# Altium integrated library TI_Logic_Flip-Flop,Latch,Register.IntLib: 2598 symbols (part 23 of 122)
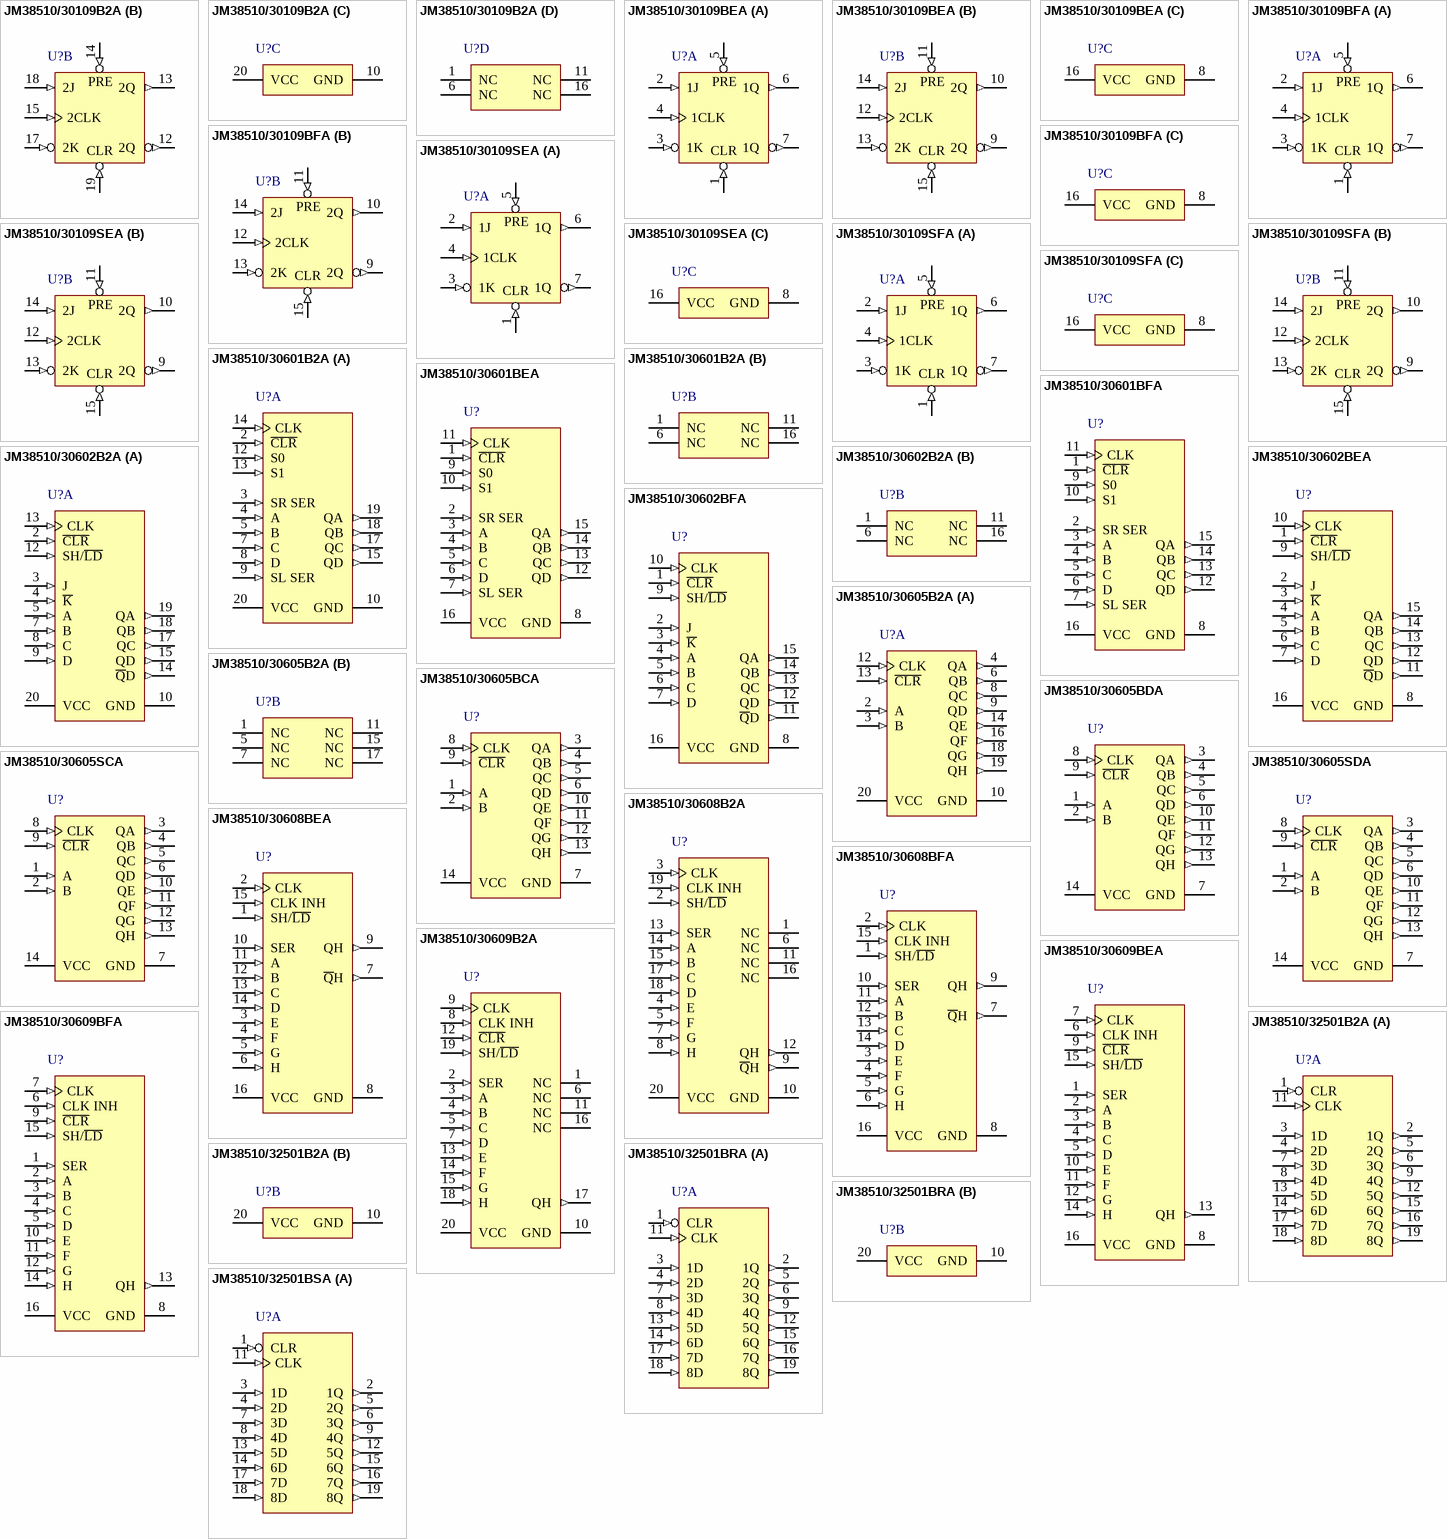
[diagram p161: symbols JM38510/30109B2A to JM38510/32501BSA]

## JM38510/32501B2A
designator U?
Octal D-type Flip-Flop With Clear, FK0020A, TUBE; Generic Part Number: SN54LS273; Manufacturer: Texas Instruments; PartNumber: JM38510/32501B2A; VCC(Min)(V): 4.75; VCC(Max)(V): 5.25; Output Type: TTL; Output: 2S; ICC @ Nom Voltage(Max)(mA): 27; Bits(#): 8; F @ Nom Voltage(Max)(Mhz): 35; Rating: Military; Technology Family: LS; Schmitt Trigger: No; Output Drive (IOL/IOH)(Max)(mA): 8/-0.4; Output Logic: Non-inverted; DatasheetVersion: SDLS090; PackageReference: FK0020A; Input Type: TTL; Operating Temperature Range(C): -55 to 125; 3-State Output: No; tpd @ Nom Voltage(Max)(ns): 27; Code_JEDEC: MS-004; ComponentLink1Description: Manufacturer URL; ComponentLink1URL: http://www.ti.com/; ComponentLink2Description: Datasheet; ComponentLink2URL: http://www.ti.com/lit/ds/symlink/sn54ls273.pdf; ComponentLink3Description: Package Specification; ComponentLink3URL: http://www.ti.com/lit/ml/mlcc006d/mlcc006d.pdf
footprint FK0020A_N (LCC, 20-Leads, Body 8.9x8.9mm, Pitch 1.27mm, IPC Medium Density)
footprint FK0020A_M (LCC, 20-Leads, Body 8.9x8.9mm, Pitch 1.27mm, IPC Low Density)
footprint FK0020A_L (LCC, 20-Leads, Body 8.9x8.9mm, Pitch 1.27mm, IPC High Density)
part A pins: 1 CLR (in) "Clear Pin", 2 1Q (out) "1Q Output", 3 1D (in) "1D Input", 4 2D (in) "2D Input", 5 2Q (out) "2Q Output", 6 3Q (out) "3Q Output", 7 3D (in) "3D Input", 8 4D (in) "4D Input", 9 4Q (out) "4Q Output", 11 CLK (in) "Clock Pin", 12 5Q (out) "5Q Output", 13 5D (in) "5D Input", 14 6D (in) "6D Input", 15 6Q (out) "6Q Output", 16 7Q (out) "7Q Output", 17 7D (in) "7D Input", 18 8D (in) "8D Input", 19 8Q (out) "8Q Output"
part B pins: 10 GND (power) "Ground Pin", 20 VCC (power) "Power Pin"

## JM38510/32501BRA
designator U?
Octal D-type Flip-Flop With Clear, J0020A, TUBE; Generic Part Number: SN54LS273; Manufacturer: Texas Instruments; PartNumber: JM38510/32501BRA; VCC(Min)(V): 4.75; VCC(Max)(V): 5.25; Output Type: TTL; Output: 2S; ICC @ Nom Voltage(Max)(mA): 27; Bits(#): 8; F @ Nom Voltage(Max)(Mhz): 35; Rating: Military; Technology Family: LS; Schmitt Trigger: No; Output Drive (IOL/IOH)(Max)(mA): 8/-0.4; Output Logic: Non-inverted; DatasheetVersion: SDLS090; PackageReference: J0020A; Input Type: TTL; Operating Temperature Range(C): -55 to 125; 3-State Output: No; tpd @ Nom Voltage(Max)(ns): 27; ComponentLink1Description: Manufacturer URL; ComponentLink1URL: http://www.ti.com/; ComponentLink2Description: Datasheet; ComponentLink2URL: http://www.ti.com/lit/ds/symlink/sn54ls273.pdf; ComponentLink3Description: Package Specification; ComponentLink3URL: http://www.ti.com/lit/ml/mcer002d/mcer002d.pdf
footprint J0020A (DIP, 20-Leads, Body 26.9x7.2mm, Pitch 2.54mm)
part A pins: 1 CLR (in) "Clear Pin", 2 1Q (out) "1Q Output", 3 1D (in) "1D Input", 4 2D (in) "2D Input", 5 2Q (out) "2Q Output", 6 3Q (out) "3Q Output", 7 3D (in) "3D Input", 8 4D (in) "4D Input", 9 4Q (out) "4Q Output", 11 CLK (in) "Clock Pin", 12 5Q (out) "5Q Output", 13 5D (in) "5D Input", 14 6D (in) "6D Input", 15 6Q (out) "6Q Output", 16 7Q (out) "7Q Output", 17 7D (in) "7D Input", 18 8D (in) "8D Input", 19 8Q (out) "8Q Output"
part B pins: 10 GND (power) "Ground Pin", 20 VCC (power) "Power Pin"

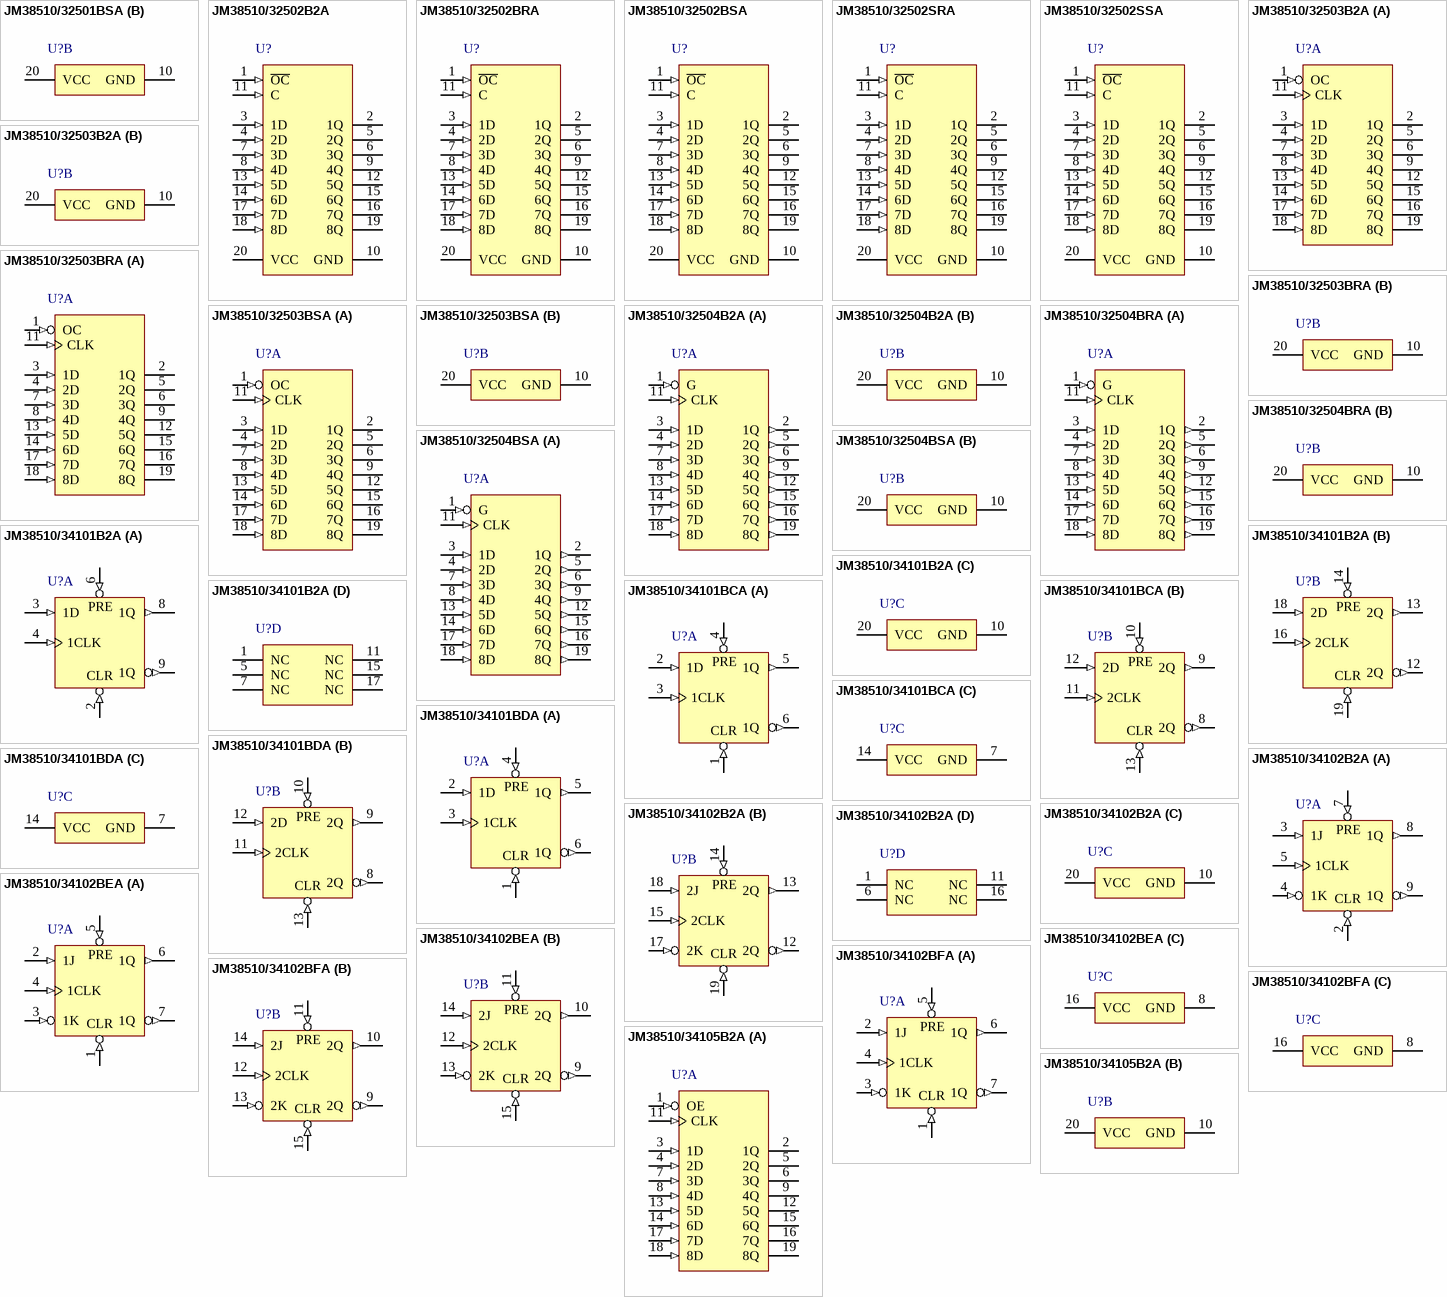
[diagram p32: symbols JM38510/32501BSA to JM38510/34105B2A]

## JM38510/32501BSA
designator U?
Octal D-type Flip-Flop With Clear, W0020A, TUBE; Generic Part Number: SN54LS273; Manufacturer: Texas Instruments; PartNumber: JM38510/32501BSA; VCC(Min)(V): 4.75; VCC(Max)(V): 5.25; Output Type: TTL; Output: 2S; ICC @ Nom Voltage(Max)(mA): 27; Bits(#): 8; F @ Nom Voltage(Max)(Mhz): 35; Rating: Military; Technology Family: LS; Schmitt Trigger: No; Output Drive (IOL/IOH)(Max)(mA): 8/-0.4; Output Logic: Non-inverted; DatasheetVersion: SDLS090; PackageReference: W0020A; Input Type: TTL; Operating Temperature Range(C): -55 to 125; 3-State Output: No; tpd @ Nom Voltage(Max)(ns): 27; ComponentLink1Description: Manufacturer URL; ComponentLink1URL: http://www.ti.com/; ComponentLink2Description: Datasheet; ComponentLink2URL: http://www.ti.com/lit/ds/symlink/sn54ls273.pdf; ComponentLink3Description: Package Specification; ComponentLink3URL: http://www.ti.com/lit/ml/mcfp006d/mcfp006d.pdf
footprint W0020A_N (CFP, 20-Leads, Body 13.72x7.62mm, Pitch 1.27mm, IPC Medium Density)
footprint W0020A_M (CFP, 20-Leads, Body 13.72x7.62mm, Pitch 1.27mm, IPC Low Density)
footprint W0020A_L (CFP, 20-Leads, Body 13.72x7.62mm, Pitch 1.27mm, IPC High Density)
part A pins: 1 CLR (in) "Clear Pin", 2 1Q (out) "1Q Output", 3 1D (in) "1D Input", 4 2D (in) "2D Input", 5 2Q (out) "2Q Output", 6 3Q (out) "3Q Output", 7 3D (in) "3D Input", 8 4D (in) "4D Input", 9 4Q (out) "4Q Output", 11 CLK (in) "Clock Pin", 12 5Q (out) "5Q Output", 13 5D (in) "5D Input", 14 6D (in) "6D Input", 15 6Q (out) "6Q Output", 16 7Q (out) "7Q Output", 17 7D (in) "7D Input", 18 8D (in) "8D Input", 19 8Q (out) "8Q Output"
part B pins: 10 GND (power) "Ground Pin", 20 VCC (power) "Power Pin"

## JM38510/32502B2A
designator U?
Octal D-Type Transparent Latches with 3-state Outputs, FK0020A, TUBE; Generic Part Number: SN54LS373; Manufacturer: Texas Instruments; PartNumber: JM38510/32502B2A; VCC(Min)(V): 4.75; VCC(Max)(V): 5.25; Output Type: TTL; Logic: True; ICC @ Nom Voltage(Max)(mA): 40; Bits(#): 8; F @ Nom Voltage(Max)(Mhz): 35; Rating: Military; Technology Family: LS; Schmitt Trigger: No; Output Drive (IOL/IOH)(Max)(mA): 24/-2.6; Output Logic: Non-inverted; 3-State Output: Yes; tpd @ Nom Voltage(Max)(ns): 18; DatasheetVersion: SDLS165B; PackageReference: FK0020A; Input Type: TTL; Operating Temperature Range(C): -55 to 125; Code_JEDEC: MS-004; ComponentLink1Description: Manufacturer URL; ComponentLink1URL: http://www.ti.com/; ComponentLink2Description: Datasheet; ComponentLink2URL: http://www.ti.com/lit/ds/symlink/sn54ls373.pdf; ComponentLink3Description: Package Specification; ComponentLink3URL: http://www.ti.com/lit/ml/mlcc006d/mlcc006d.pdf
footprint FK0020A_N (LCC, 20-Leads, Body 8.9x8.9mm, Pitch 1.27mm, IPC Medium Density)
footprint FK0020A_M (LCC, 20-Leads, Body 8.9x8.9mm, Pitch 1.27mm, IPC Low Density)
footprint FK0020A_L (LCC, 20-Leads, Body 8.9x8.9mm, Pitch 1.27mm, IPC High Density)
pins: 1 ~{OC} (in), 2 1Q (hiz), 3 1D (in), 4 2D (in), 5 2Q (hiz), 6 3Q (hiz), 7 3D (in), 8 4D (in), 9 4Q (hiz), 10 GND (power), 11 C (in), 12 5Q (hiz), 13 5D (in), 14 6D (in), 15 6Q (hiz), 16 7Q (hiz), 17 7D (in), 18 8D (in), 19 8Q (hiz), 20 VCC (power)

## JM38510/32502BRA
designator U?
Octal D-Type Transparent Latches with 3-state Outputs, J0020A, TUBE; Generic Part Number: SN54LS373; Manufacturer: Texas Instruments; PartNumber: JM38510/32502BRA; VCC(Min)(V): 4.75; VCC(Max)(V): 5.25; Output Type: TTL; Logic: True; ICC @ Nom Voltage(Max)(mA): 40; Bits(#): 8; F @ Nom Voltage(Max)(Mhz): 35; Rating: Military; Technology Family: LS; Schmitt Trigger: No; Output Drive (IOL/IOH)(Max)(mA): 24/-2.6; Output Logic: Non-inverted; 3-State Output: Yes; tpd @ Nom Voltage(Max)(ns): 18; DatasheetVersion: SDLS165B; PackageReference: J0020A; Input Type: TTL; Operating Temperature Range(C): -55 to 125; ComponentLink1Description: Manufacturer URL; ComponentLink1URL: http://www.ti.com/; ComponentLink2Description: Datasheet; ComponentLink2URL: http://www.ti.com/lit/ds/symlink/sn54ls373.pdf; ComponentLink3Description: Package Specification; ComponentLink3URL: http://www.ti.com/lit/ml/mcer002d/mcer002d.pdf
footprint J0020A (DIP, 20-Leads, Body 26.9x7.2mm, Pitch 2.54mm)
pins: 1 ~{OC} (in), 2 1Q (hiz), 3 1D (in), 4 2D (in), 5 2Q (hiz), 6 3Q (hiz), 7 3D (in), 8 4D (in), 9 4Q (hiz), 10 GND (power), 11 C (in), 12 5Q (hiz), 13 5D (in), 14 6D (in), 15 6Q (hiz), 16 7Q (hiz), 17 7D (in), 18 8D (in), 19 8Q (hiz), 20 VCC (power)

## JM38510/32502BSA
designator U?
Octal D-Type Transparent Latches with 3-state Outputs, W0020A, TUBE; Generic Part Number: SN54LS373; Manufacturer: Texas Instruments; PartNumber: JM38510/32502BSA; VCC(Min)(V): 4.75; VCC(Max)(V): 5.25; Output Type: TTL; Logic: True; ICC @ Nom Voltage(Max)(mA): 40; Bits(#): 8; F @ Nom Voltage(Max)(Mhz): 35; Rating: Military; Technology Family: LS; Schmitt Trigger: No; Output Drive (IOL/IOH)(Max)(mA): 24/-2.6; Output Logic: Non-inverted; 3-State Output: Yes; tpd @ Nom Voltage(Max)(ns): 18; DatasheetVersion: SDLS165B; PackageReference: W0020A; Input Type: TTL; Operating Temperature Range(C): -55 to 125; ComponentLink1Description: Manufacturer URL; ComponentLink1URL: http://www.ti.com/; ComponentLink2Description: Datasheet; ComponentLink2URL: http://www.ti.com/lit/ds/symlink/sn54ls373.pdf; ComponentLink3Description: Package Specification; ComponentLink3URL: http://www.ti.com/lit/ml/mcfp006d/mcfp006d.pdf
footprint W0020A_N (CFP, 20-Leads, Body 13.72x7.62mm, Pitch 1.27mm, IPC Medium Density)
footprint W0020A_M (CFP, 20-Leads, Body 13.72x7.62mm, Pitch 1.27mm, IPC Low Density)
footprint W0020A_L (CFP, 20-Leads, Body 13.72x7.62mm, Pitch 1.27mm, IPC High Density)
pins: 1 ~{OC} (in), 2 1Q (hiz), 3 1D (in), 4 2D (in), 5 2Q (hiz), 6 3Q (hiz), 7 3D (in), 8 4D (in), 9 4Q (hiz), 10 GND (power), 11 C (in), 12 5Q (hiz), 13 5D (in), 14 6D (in), 15 6Q (hiz), 16 7Q (hiz), 17 7D (in), 18 8D (in), 19 8Q (hiz), 20 VCC (power)

## JM38510/32502SRA
designator U?
Octal D-Type Transparent Latches with 3-state Outputs, J0020A, TUBE; Generic Part Number: SN54LS373-SP; Manufacturer: Texas Instruments; PartNumber: JM38510/32502SRA; VCC(Min)(V): 4.75; VCC(Max)(V): 5.25; Output Type: TTL; Logic: True; ICC @ Nom Voltage(Max)(mA): 40; Bits(#): 8; F @ Nom Voltage(Max)(Mhz): 35; Rating: Space; Technology Family: LS; Schmitt Trigger: No; Output Drive (IOL/IOH)(Max)(mA): 24/-2.6; Output Logic: Non-inverted; 3-State Output: Yes; tpd @ Nom Voltage(Max)(ns): 18; DatasheetVersion: SDLS165B; PackageReference: J0020A; Input Type: TTL; Operating Temperature Range(C): -55 to 125; ComponentLink1Description: Manufacturer URL; ComponentLink1URL: http://www.ti.com/; ComponentLink2Description: Datasheet; ComponentLink2URL: http://www.ti.com/lit/ds/symlink/sn54ls373-sp.pdf; ComponentLink3Description: Package Specification; ComponentLink3URL: http://www.ti.com/lit/ml/mcer002d/mcer002d.pdf
footprint J0020A (DIP, 20-Leads, Body 26.9x7.2mm, Pitch 2.54mm)
pins: 1 ~{OC} (in), 2 1Q (hiz), 3 1D (in), 4 2D (in), 5 2Q (hiz), 6 3Q (hiz), 7 3D (in), 8 4D (in), 9 4Q (hiz), 10 GND (power), 11 C (in), 12 5Q (hiz), 13 5D (in), 14 6D (in), 15 6Q (hiz), 16 7Q (hiz), 17 7D (in), 18 8D (in), 19 8Q (hiz), 20 VCC (power)

## JM38510/32502SSA
designator U?
Octal D-Type Transparent Latches with 3-state Outputs, W0020A, TUBE; Generic Part Number: SN54LS373-SP; Manufacturer: Texas Instruments; PartNumber: JM38510/32502SSA; VCC(Min)(V): 4.75; VCC(Max)(V): 5.25; Output Type: TTL; Logic: True; ICC @ Nom Voltage(Max)(mA): 40; Bits(#): 8; F @ Nom Voltage(Max)(Mhz): 35; Rating: Space; Technology Family: LS; Schmitt Trigger: No; Output Drive (IOL/IOH)(Max)(mA): 24/-2.6; Output Logic: Non-inverted; 3-State Output: Yes; tpd @ Nom Voltage(Max)(ns): 18; DatasheetVersion: SDLS165B; PackageReference: W0020A; Input Type: TTL; Operating Temperature Range(C): -55 to 125; ComponentLink1Description: Manufacturer URL; ComponentLink1URL: http://www.ti.com/; ComponentLink2Description: Datasheet; ComponentLink2URL: http://www.ti.com/lit/ds/symlink/sn54ls373-sp.pdf; ComponentLink3Description: Package Specification; ComponentLink3URL: http://www.ti.com/lit/ml/mcfp006d/mcfp006d.pdf
footprint W0020A_N (CFP, 20-Leads, Body 13.72x7.62mm, Pitch 1.27mm, IPC Medium Density)
footprint W0020A_M (CFP, 20-Leads, Body 13.72x7.62mm, Pitch 1.27mm, IPC Low Density)
footprint W0020A_L (CFP, 20-Leads, Body 13.72x7.62mm, Pitch 1.27mm, IPC High Density)
pins: 1 ~{OC} (in), 2 1Q (hiz), 3 1D (in), 4 2D (in), 5 2Q (hiz), 6 3Q (hiz), 7 3D (in), 8 4D (in), 9 4Q (hiz), 10 GND (power), 11 C (in), 12 5Q (hiz), 13 5D (in), 14 6D (in), 15 6Q (hiz), 16 7Q (hiz), 17 7D (in), 18 8D (in), 19 8Q (hiz), 20 VCC (power)

## JM38510/32503B2A
designator U?
Octal D-Type Edge Triggered Flip-Flops with 3-State Outputs, FK0020A, TUBE; Generic Part Number: SN54LS374; Manufacturer: Texas Instruments; PartNumber: JM38510/32503B2A; VCC(Min)(V): 4.75; VCC(Max)(V): 5.25; Output Type: TTL; ICC @ Nom Voltage(Max)(mA): 40; Bits(#): 8; F @ Nom Voltage(Max)(Mhz): 35; Rating: Military; Technology Family: LS; Schmitt Trigger: No; Output Drive (IOL/IOH)(Max)(mA): 24/-2.6; Output Logic: Non-inverted; 3-State Output: Yes; tpd @ Nom Voltage(Max)(ns): 28; DatasheetVersion: SDLS165B; PackageReference: FK0020A; Input Type: TTL; Operating Temperature Range(C): -55 to 125; Code_JEDEC: MS-004; ComponentLink1Description: Manufacturer URL; ComponentLink1URL: http://www.ti.com/; ComponentLink2Description: Datasheet; ComponentLink2URL: http://www.ti.com/lit/ds/symlink/sn54ls374.pdf; ComponentLink3Description: Package Specification; ComponentLink3URL: http://www.ti.com/lit/ml/mlcc006d/mlcc006d.pdf
footprint FK0020A_N (LCC, 20-Leads, Body 8.9x8.9mm, Pitch 1.27mm, IPC Medium Density)
footprint FK0020A_M (LCC, 20-Leads, Body 8.9x8.9mm, Pitch 1.27mm, IPC Low Density)
footprint FK0020A_L (LCC, 20-Leads, Body 8.9x8.9mm, Pitch 1.27mm, IPC High Density)
part A pins: 1 OC (in), 2 1Q (hiz), 3 1D (in), 4 2D (in), 5 2Q (hiz), 6 3Q (hiz), 7 3D (in), 8 4D (in), 9 4Q (hiz), 11 CLK (in), 12 5Q (hiz), 13 5D (in), 14 6D (in), 15 6Q (hiz), 16 7Q (hiz), 17 7D (in), 18 8D (in), 19 8Q (hiz)
part B pins: 10 GND (power), 20 VCC (power)

## JM38510/32503BRA
designator U?
Octal D-Type Edge Triggered Flip-Flops with 3-State Outputs, J0020A, TUBE; Generic Part Number: SN54LS374; Manufacturer: Texas Instruments; PartNumber: JM38510/32503BRA; VCC(Min)(V): 4.75; VCC(Max)(V): 5.25; Output Type: TTL; ICC @ Nom Voltage(Max)(mA): 40; Bits(#): 8; F @ Nom Voltage(Max)(Mhz): 35; Rating: Military; Technology Family: LS; Schmitt Trigger: No; Output Drive (IOL/IOH)(Max)(mA): 24/-2.6; Output Logic: Non-inverted; 3-State Output: Yes; tpd @ Nom Voltage(Max)(ns): 28; DatasheetVersion: SDLS165B; PackageReference: J0020A; Input Type: TTL; Operating Temperature Range(C): -55 to 125; ComponentLink1Description: Manufacturer URL; ComponentLink1URL: http://www.ti.com/; ComponentLink2Description: Datasheet; ComponentLink2URL: http://www.ti.com/lit/ds/symlink/sn54ls374.pdf; ComponentLink3Description: Package Specification; ComponentLink3URL: http://www.ti.com/lit/ml/mcer002d/mcer002d.pdf
footprint J0020A (DIP, 20-Leads, Body 26.9x7.2mm, Pitch 2.54mm)
part A pins: 1 OC (in), 2 1Q (hiz), 3 1D (in), 4 2D (in), 5 2Q (hiz), 6 3Q (hiz), 7 3D (in), 8 4D (in), 9 4Q (hiz), 11 CLK (in), 12 5Q (hiz), 13 5D (in), 14 6D (in), 15 6Q (hiz), 16 7Q (hiz), 17 7D (in), 18 8D (in), 19 8Q (hiz)
part B pins: 10 GND (power), 20 VCC (power)

## JM38510/32503BSA
designator U?
Octal D-Type Edge Triggered Flip-Flops with 3-State Outputs, W0020A, TUBE; Generic Part Number: SN54LS374; Manufacturer: Texas Instruments; PartNumber: JM38510/32503BSA; VCC(Min)(V): 4.75; VCC(Max)(V): 5.25; Output Type: TTL; ICC @ Nom Voltage(Max)(mA): 40; Bits(#): 8; F @ Nom Voltage(Max)(Mhz): 35; Rating: Military; Technology Family: LS; Schmitt Trigger: No; Output Drive (IOL/IOH)(Max)(mA): 24/-2.6; Output Logic: Non-inverted; 3-State Output: Yes; tpd @ Nom Voltage(Max)(ns): 28; DatasheetVersion: SDLS165B; PackageReference: W0020A; Input Type: TTL; Operating Temperature Range(C): -55 to 125; ComponentLink1Description: Manufacturer URL; ComponentLink1URL: http://www.ti.com/; ComponentLink2Description: Datasheet; ComponentLink2URL: http://www.ti.com/lit/ds/symlink/sn54ls374.pdf; ComponentLink3Description: Package Specification; ComponentLink3URL: http://www.ti.com/lit/ml/mcfp006d/mcfp006d.pdf
footprint W0020A_N (CFP, 20-Leads, Body 13.72x7.62mm, Pitch 1.27mm, IPC Medium Density)
footprint W0020A_M (CFP, 20-Leads, Body 13.72x7.62mm, Pitch 1.27mm, IPC Low Density)
footprint W0020A_L (CFP, 20-Leads, Body 13.72x7.62mm, Pitch 1.27mm, IPC High Density)
part A pins: 1 OC (in), 2 1Q (hiz), 3 1D (in), 4 2D (in), 5 2Q (hiz), 6 3Q (hiz), 7 3D (in), 8 4D (in), 9 4Q (hiz), 11 CLK (in), 12 5Q (hiz), 13 5D (in), 14 6D (in), 15 6Q (hiz), 16 7Q (hiz), 17 7D (in), 18 8D (in), 19 8Q (hiz)
part B pins: 10 GND (power), 20 VCC (power)

## JM38510/32504B2A
designator U?
Octal D-type Flip-Flops With Enable, FK0020A, TUBE; Generic Part Number: SN54LS377; Manufacturer: Texas Instruments; PartNumber: JM38510/32504B2A; VCC(Min)(V): 4.75; VCC(Max)(V): 5.25; Output Type: TTL; Output: 2S; ICC @ Nom Voltage(Max)(mA): 28; Bits(#): 8; F @ Nom Voltage(Max)(Mhz): 35; Rating: Military; Technology Family: LS; Schmitt Trigger: No; Output Drive (IOL/IOH)(Max)(mA): 8/-0.4; Output Logic: Inverted,Non-inverted; tpd @ Nom Voltage(Max)(ns): 27; DatasheetVersion: SDLS167; PackageReference: FK0020A; Input Type: TTL; Operating Temperature Range(C): -55 to 125; 3-State Output: No; Code_JEDEC: MS-004; ComponentLink1Description: Manufacturer URL; ComponentLink1URL: http://www.ti.com/; ComponentLink2Description: Datasheet; ComponentLink2URL: http://www.ti.com/lit/ds/symlink/sn54ls377.pdf; ComponentLink3Description: Package Specification; ComponentLink3URL: http://www.ti.com/lit/ml/mlcc006d/mlcc006d.pdf
footprint FK0020A_N (LCC, 20-Leads, Body 8.9x8.9mm, Pitch 1.27mm, IPC Medium Density)
footprint FK0020A_M (LCC, 20-Leads, Body 8.9x8.9mm, Pitch 1.27mm, IPC Low Density)
footprint FK0020A_L (LCC, 20-Leads, Body 8.9x8.9mm, Pitch 1.27mm, IPC High Density)
part A pins: 1 G (in), 2 1Q (out), 3 1D (in), 4 2D (in), 5 2Q (out), 6 3Q (out), 7 3D (in), 8 4D (in), 9 4Q (out), 11 CLK (in), 12 5Q (out), 13 5D (in), 14 6D (in), 15 6Q (out), 16 7Q (out), 17 7D (in), 18 8D (in), 19 8Q (out)
part B pins: 10 GND (power), 20 VCC (power)

## JM38510/32504BRA
designator U?
Octal D-type Flip-Flops With Enable, J0020A, TUBE; Generic Part Number: SN54LS377; Manufacturer: Texas Instruments; PartNumber: JM38510/32504BRA; VCC(Min)(V): 4.75; VCC(Max)(V): 5.25; Output Type: TTL; Output: 2S; ICC @ Nom Voltage(Max)(mA): 28; Bits(#): 8; F @ Nom Voltage(Max)(Mhz): 35; Rating: Military; Technology Family: LS; Schmitt Trigger: No; Output Drive (IOL/IOH)(Max)(mA): 8/-0.4; Output Logic: Inverted,Non-inverted; tpd @ Nom Voltage(Max)(ns): 27; DatasheetVersion: SDLS167; PackageReference: J0020A; Input Type: TTL; Operating Temperature Range(C): -55 to 125; 3-State Output: No; ComponentLink1Description: Manufacturer URL; ComponentLink1URL: http://www.ti.com/; ComponentLink2Description: Datasheet; ComponentLink2URL: http://www.ti.com/lit/ds/symlink/sn54ls377.pdf; ComponentLink3Description: Package Specification; ComponentLink3URL: http://www.ti.com/lit/ml/mcer002d/mcer002d.pdf
footprint J0020A (DIP, 20-Leads, Body 26.9x7.2mm, Pitch 2.54mm)
part A pins: 1 G (in), 2 1Q (out), 3 1D (in), 4 2D (in), 5 2Q (out), 6 3Q (out), 7 3D (in), 8 4D (in), 9 4Q (out), 11 CLK (in), 12 5Q (out), 13 5D (in), 14 6D (in), 15 6Q (out), 16 7Q (out), 17 7D (in), 18 8D (in), 19 8Q (out)
part B pins: 10 GND (power), 20 VCC (power)

## JM38510/32504BSA
designator U?
Octal D-type Flip-Flops With Enable, W0020A, TUBE; Generic Part Number: SN54LS377; Manufacturer: Texas Instruments; PartNumber: JM38510/32504BSA; VCC(Min)(V): 4.75; VCC(Max)(V): 5.25; Output Type: TTL; Output: 2S; ICC @ Nom Voltage(Max)(mA): 28; Bits(#): 8; F @ Nom Voltage(Max)(Mhz): 35; Rating: Military; Technology Family: LS; Schmitt Trigger: No; Output Drive (IOL/IOH)(Max)(mA): 8/-0.4; Output Logic: Inverted,Non-inverted; tpd @ Nom Voltage(Max)(ns): 27; DatasheetVersion: SDLS167; PackageReference: W0020A; Input Type: TTL; Operating Temperature Range(C): -55 to 125; 3-State Output: No; ComponentLink1Description: Manufacturer URL; ComponentLink1URL: http://www.ti.com/; ComponentLink2Description: Datasheet; ComponentLink2URL: http://www.ti.com/lit/ds/symlink/sn54ls377.pdf; ComponentLink3Description: Package Specification; ComponentLink3URL: http://www.ti.com/lit/ml/mcfp006d/mcfp006d.pdf
footprint W0020A_N (CFP, 20-Leads, Body 13.72x7.62mm, Pitch 1.27mm, IPC Medium Density)
footprint W0020A_M (CFP, 20-Leads, Body 13.72x7.62mm, Pitch 1.27mm, IPC Low Density)
footprint W0020A_L (CFP, 20-Leads, Body 13.72x7.62mm, Pitch 1.27mm, IPC High Density)
part A pins: 1 G (in), 2 1Q (out), 3 1D (in), 4 2D (in), 5 2Q (out), 6 3Q (out), 7 3D (in), 8 4D (in), 9 4Q (out), 11 CLK (in), 12 5Q (out), 13 5D (in), 14 6D (in), 15 6Q (out), 16 7Q (out), 17 7D (in), 18 8D (in), 19 8Q (out)
part B pins: 10 GND (power), 20 VCC (power)

## JM38510/34101B2A
designator U?
Dual Positive-Edge-Triggered D-type Flip-Flops With Clear And Preset, FK0020A, TUBE; Generic Part Number: SN54F74; Manufacturer: Texas Instruments; PartNumber: JM38510/34101B2A; VCC(Min)(V): 4.5; VCC(Max)(V): 5.5; Output Type: TTL; Output: 3S; ICC @ Nom Voltage(Max)(mA): 16; Bits(#): 2; F @ Nom Voltage(Max)(Mhz): 70; Rating: Military; Technology Family: F; Schmitt Trigger: No; Output Drive (IOL/IOH)(Max)(mA): 20/-1; Output Logic: Inverted,Non-inverted; tpd @ Nom Voltage(Max)(ns): 9.2; DatasheetVersion: SDFS046A; PackageReference: FK0020A; Input Type: TTL; Operating Temperature Range(C): -55 to 125; 3-State Output: No; Code_JEDEC: MS-004; ComponentLink1Description: Manufacturer URL; ComponentLink1URL: http://www.ti.com/; ComponentLink2Description: Datasheet; ComponentLink2URL: http://www.ti.com/lit/ds/symlink/sn54f74.pdf; ComponentLink3Description: Package Specification; ComponentLink3URL: http://www.ti.com/lit/ml/mlcc006d/mlcc006d.pdf
footprint FK0020A_N (LCC, 20-Leads, Body 8.9x8.9mm, Pitch 1.27mm, IPC Medium Density)
footprint FK0020A_M (LCC, 20-Leads, Body 8.9x8.9mm, Pitch 1.27mm, IPC Low Density)
footprint FK0020A_L (LCC, 20-Leads, Body 8.9x8.9mm, Pitch 1.27mm, IPC High Density)
part A pins: 2 1~{CLR} (in), 3 1D (in), 4 1CLK (in), 6 1~{PRE} (in), 8 1Q (out), 9 1Q (out)
part B pins: 12 2Q (out), 13 2Q (out), 14 2~{PRE} (in), 16 2CLK (in), 18 2D (in), 19 2~{CLR} (in)
part C pins: 10 GND (power), 20 VCC (power)
part D pins: 1 NC, 5 NC, 7 NC, 11 NC, 15 NC, 17 NC
part A text: PRE; CLR
part B text: PRE; CLR

## JM38510/34101BCA
designator U?
Dual Positive-Edge-Triggered D-type Flip-Flops With Clear And Preset, J0014A, TUBE; Generic Part Number: SN54F74; Manufacturer: Texas Instruments; PartNumber: JM38510/34101BCA; VCC(Min)(V): 4.5; VCC(Max)(V): 5.5; Output Type: TTL; Output: 3S; ICC @ Nom Voltage(Max)(mA): 16; Bits(#): 2; F @ Nom Voltage(Max)(Mhz): 70; Rating: Military; Technology Family: F; Schmitt Trigger: No; Output Drive (IOL/IOH)(Max)(mA): 20/-1; Output Logic: Inverted,Non-inverted; tpd @ Nom Voltage(Max)(ns): 9.2; DatasheetVersion: SDFS046A; PackageReference: J0014A; Input Type: TTL; Operating Temperature Range(C): -55 to 125; 3-State Output: No; ComponentLink1Description: Manufacturer URL; ComponentLink1URL: http://www.ti.com/; ComponentLink2Description: Datasheet; ComponentLink2URL: http://www.ti.com/lit/ds/symlink/sn54f74.pdf; ComponentLink3Description: Package Specification; ComponentLink3URL: http://www.ti.com/lit/ml/mcer002d/mcer002d.pdf
footprint J0014A (DIP, 14-Leads, Body 19.95x7.2mm, Pitch 2.54mm)
part A pins: 1 1~{CLR} (in), 2 1D (in), 3 1CLK (in), 4 1~{PRE} (in), 5 1Q (out), 6 1Q (out)
part B pins: 8 2Q (out), 9 2Q (out), 10 2~{PRE} (in), 11 2CLK (in), 12 2D (in), 13 2~{CLR} (in)
part C pins: 7 GND (power), 14 VCC (power)
part A text: PRE; CLR
part B text: PRE; CLR

## JM38510/34101BDA
designator U?
Dual Positive-Edge-Triggered D-type Flip-Flops With Clear And Preset, W0014A, TUBE; Generic Part Number: SN54F74; Manufacturer: Texas Instruments; PartNumber: JM38510/34101BDA; VCC(Min)(V): 4.5; VCC(Max)(V): 5.5; Output Type: TTL; Output: 3S; ICC @ Nom Voltage(Max)(mA): 16; Bits(#): 2; F @ Nom Voltage(Max)(Mhz): 70; Rating: Military; Technology Family: F; Schmitt Trigger: No; Output Drive (IOL/IOH)(Max)(mA): 20/-1; Output Logic: Inverted,Non-inverted; tpd @ Nom Voltage(Max)(ns): 9.2; DatasheetVersion: SDFS046A; PackageReference: W0014A; Input Type: TTL; Operating Temperature Range(C): -55 to 125; 3-State Output: No; ComponentLink1Description: Manufacturer URL; ComponentLink1URL: http://www.ti.com/; ComponentLink2Description: Datasheet; ComponentLink2URL: http://www.ti.com/lit/ds/symlink/sn54f74.pdf; ComponentLink3Description: Package Specification; ComponentLink3URL: http://www.ti.com/lit/ml/mcfp002c/mcfp002c.pdf
footprint W0014A_N (CFP, 14-Leads, Body 9.91x6.6mm, Pitch 1.27mm, IPC Medium Density)
footprint W0014A_M (CFP, 14-Leads, Body 9.91x6.6mm, Pitch 1.27mm, IPC Low Density)
footprint W0014A_L (CFP, 14-Leads, Body 9.91x6.6mm, Pitch 1.27mm, IPC High Density)
part A pins: 1 1~{CLR} (in), 2 1D (in), 3 1CLK (in), 4 1~{PRE} (in), 5 1Q (out), 6 1Q (out)
part B pins: 8 2Q (out), 9 2Q (out), 10 2~{PRE} (in), 11 2CLK (in), 12 2D (in), 13 2~{CLR} (in)
part C pins: 7 GND (power), 14 VCC (power)
part A text: PRE; CLR
part B text: PRE; CLR

## JM38510/34102B2A
designator U?
Dual J-K Positive-Edge-Triggered Flip-Flops W/Clear And Preset, FK0020A, TUBE; Generic Part Number: SN54F109; Manufacturer: Texas Instruments; PartNumber: JM38510/34102B2A; VCC(Min)(V): 4.5; VCC(Max)(V): 5.5; Output Type: TTL; Output: 2S; Bits(#): 2; Rating: Military; Technology Family: F; Schmitt Trigger: No; DatasheetVersion: SDFS047A; PackageReference: FK0020A; Input Type: TTL; Operating Temperature Range(C): -55 to 125; Code_JEDEC: MS-004; ComponentLink1Description: Manufacturer URL; ComponentLink1URL: http://www.ti.com/; ComponentLink2Description: Datasheet; ComponentLink2URL: http://www.ti.com/lit/ds/symlink/sn54f109.pdf; ComponentLink3Description: Package Specification; ComponentLink3URL: http://www.ti.com/lit/ml/mlcc006d/mlcc006d.pdf
footprint FK0020A_N (LCC, 20-Leads, Body 8.9x8.9mm, Pitch 1.27mm, IPC Medium Density)
footprint FK0020A_M (LCC, 20-Leads, Body 8.9x8.9mm, Pitch 1.27mm, IPC Low Density)
footprint FK0020A_L (LCC, 20-Leads, Body 8.9x8.9mm, Pitch 1.27mm, IPC High Density)
part A pins: 2 1~{CLR} (in), 3 1J (in), 4 1K (in), 5 1CLK (in), 7 1~{PRE} (in), 8 1Q (out), 9 1Q (out)
part B pins: 12 2Q (out), 13 2Q (out), 14 2~{PRE} (in), 15 2CLK (in), 17 2K (in), 18 2J (in), 19 2~{CLR} (in)
part C pins: 10 GND (power), 20 VCC (power)
part D pins: 1 NC, 6 NC, 11 NC, 16 NC
part A text: PRE; CLR
part B text: PRE; CLR

## JM38510/34102BEA
designator U?
Dual J-K Positive-Edge-Triggered Flip-Flops W/Clear And Preset, J0016A, TUBE; Generic Part Number: SN54F109; Manufacturer: Texas Instruments; PartNumber: JM38510/34102BEA; VCC(Min)(V): 4.5; VCC(Max)(V): 5.5; Output Type: TTL; Output: 2S; Bits(#): 2; Rating: Military; Technology Family: F; Schmitt Trigger: No; DatasheetVersion: SDFS047A; PackageReference: J0016A; Input Type: TTL; Operating Temperature Range(C): -55 to 125; ComponentLink1Description: Manufacturer URL; ComponentLink1URL: http://www.ti.com/; ComponentLink2Description: Datasheet; ComponentLink2URL: http://www.ti.com/lit/ds/symlink/sn54f109.pdf; ComponentLink3Description: Package Specification; ComponentLink3URL: http://www.ti.com/lit/ml/mcer002d/mcer002d.pdf
footprint J0016A (DIP, 16-Leads, Body 21.35x7.2mm, Pitch 2.54mm)
part A pins: 1 1~{CLR} (in), 2 1J (in), 3 1K (in), 4 1CLK (in), 5 1~{PRE} (in), 6 1Q (out), 7 1Q (out)
part B pins: 9 2Q (out), 10 2Q (out), 11 2~{PRE} (in), 12 2CLK (in), 13 2K (in), 14 2J (in), 15 2~{CLR} (in)
part C pins: 8 GND (power), 16 VCC (power)
part A text: PRE; CLR
part B text: PRE; CLR

## JM38510/34102BFA
designator U?
Dual J-K Positive-Edge-Triggered Flip-Flops W/Clear And Preset, W0016A, TUBE; Generic Part Number: SN54F109; Manufacturer: Texas Instruments; PartNumber: JM38510/34102BFA; VCC(Min)(V): 4.5; VCC(Max)(V): 5.5; Output Type: TTL; Output: 2S; Bits(#): 2; Rating: Military; Technology Family: F; Schmitt Trigger: No; DatasheetVersion: SDFS047A; PackageReference: W0016A; Input Type: TTL; Operating Temperature Range(C): -55 to 125; ComponentLink1Description: Manufacturer URL; ComponentLink1URL: http://www.ti.com/; ComponentLink2Description: Datasheet; ComponentLink2URL: http://www.ti.com/lit/ds/symlink/sn54f109.pdf; ComponentLink3Description: Package Specification; ComponentLink3URL: http://www.ti.com/lit/ml/mcfp004c/mcfp004c.pdf
footprint W0016A_N (CFP, 16-Leads, Body 10.92x7.24mm, Pitch 1.27mm, IPC Medium Density)
footprint W0016A_M (CFP, 16-Leads, Body 10.92x7.24mm, Pitch 1.27mm, IPC Low Density)
footprint W0016A_L (CFP, 16-Leads, Body 10.92x7.24mm, Pitch 1.27mm, IPC High Density)
part A pins: 1 1~{CLR} (in), 2 1J (in), 3 1K (in), 4 1CLK (in), 5 1~{PRE} (in), 6 1Q (out), 7 1Q (out)
part B pins: 9 2Q (out), 10 2Q (out), 11 2~{PRE} (in), 12 2CLK (in), 13 2K (in), 14 2J (in), 15 2~{CLR} (in)
part C pins: 8 GND (power), 16 VCC (power)
part A text: PRE; CLR
part B text: PRE; CLR

## JM38510/34105B2A
designator U?
Octal Edge-Triggered D-type Flip-Flops With 3-State Outputs, FK0020A, TUBE; Generic Part Number: SN54F374; Manufacturer: Texas Instruments; PartNumber: JM38510/34105B2A; VCC(Min)(V): 4.5; VCC(Max)(V): 5.5; Output Type: TTL; ICC @ Nom Voltage(Max)(mA): 86; Bits(#): 8; F @ Nom Voltage(Max)(Mhz): 70; Rating: Military; Technology Family: F; Schmitt Trigger: No; Output Drive (IOL/IOH)(Max)(mA): 24/-3; Output Logic: Non-inverted; 3-State Output: Yes; tpd @ Nom Voltage(Max)(ns): 10; DatasheetVersion: SDFS077A; PackageReference: FK0020A; Input Type: TTL; Operating Temperature Range(C): -55 to 125; Code_JEDEC: MS-004; ComponentLink1Description: Manufacturer URL; ComponentLink1URL: http://www.ti.com/; ComponentLink2Description: Datasheet; ComponentLink2URL: http://www.ti.com/lit/ds/symlink/sn54f374.pdf; ComponentLink3Description: Package Specification; ComponentLink3URL: http://www.ti.com/lit/ml/mlcc006d/mlcc006d.pdf
footprint FK0020A_N (LCC, 20-Leads, Body 8.9x8.9mm, Pitch 1.27mm, IPC Medium Density)
footprint FK0020A_M (LCC, 20-Leads, Body 8.9x8.9mm, Pitch 1.27mm, IPC Low Density)
footprint FK0020A_L (LCC, 20-Leads, Body 8.9x8.9mm, Pitch 1.27mm, IPC High Density)
part A pins: 1 OE (in), 2 1Q (hiz), 3 1D (in), 4 2D (in), 5 2Q (hiz), 6 3Q (hiz), 7 3D (in), 8 4D (in), 9 4Q (hiz), 11 CLK (in), 12 5Q (hiz), 13 5D (in), 14 6D (in), 15 6Q (hiz), 16 7Q (hiz), 17 7D (in), 18 8D (in), 19 8Q (hiz)
part B pins: 10 GND (power), 20 VCC (power)

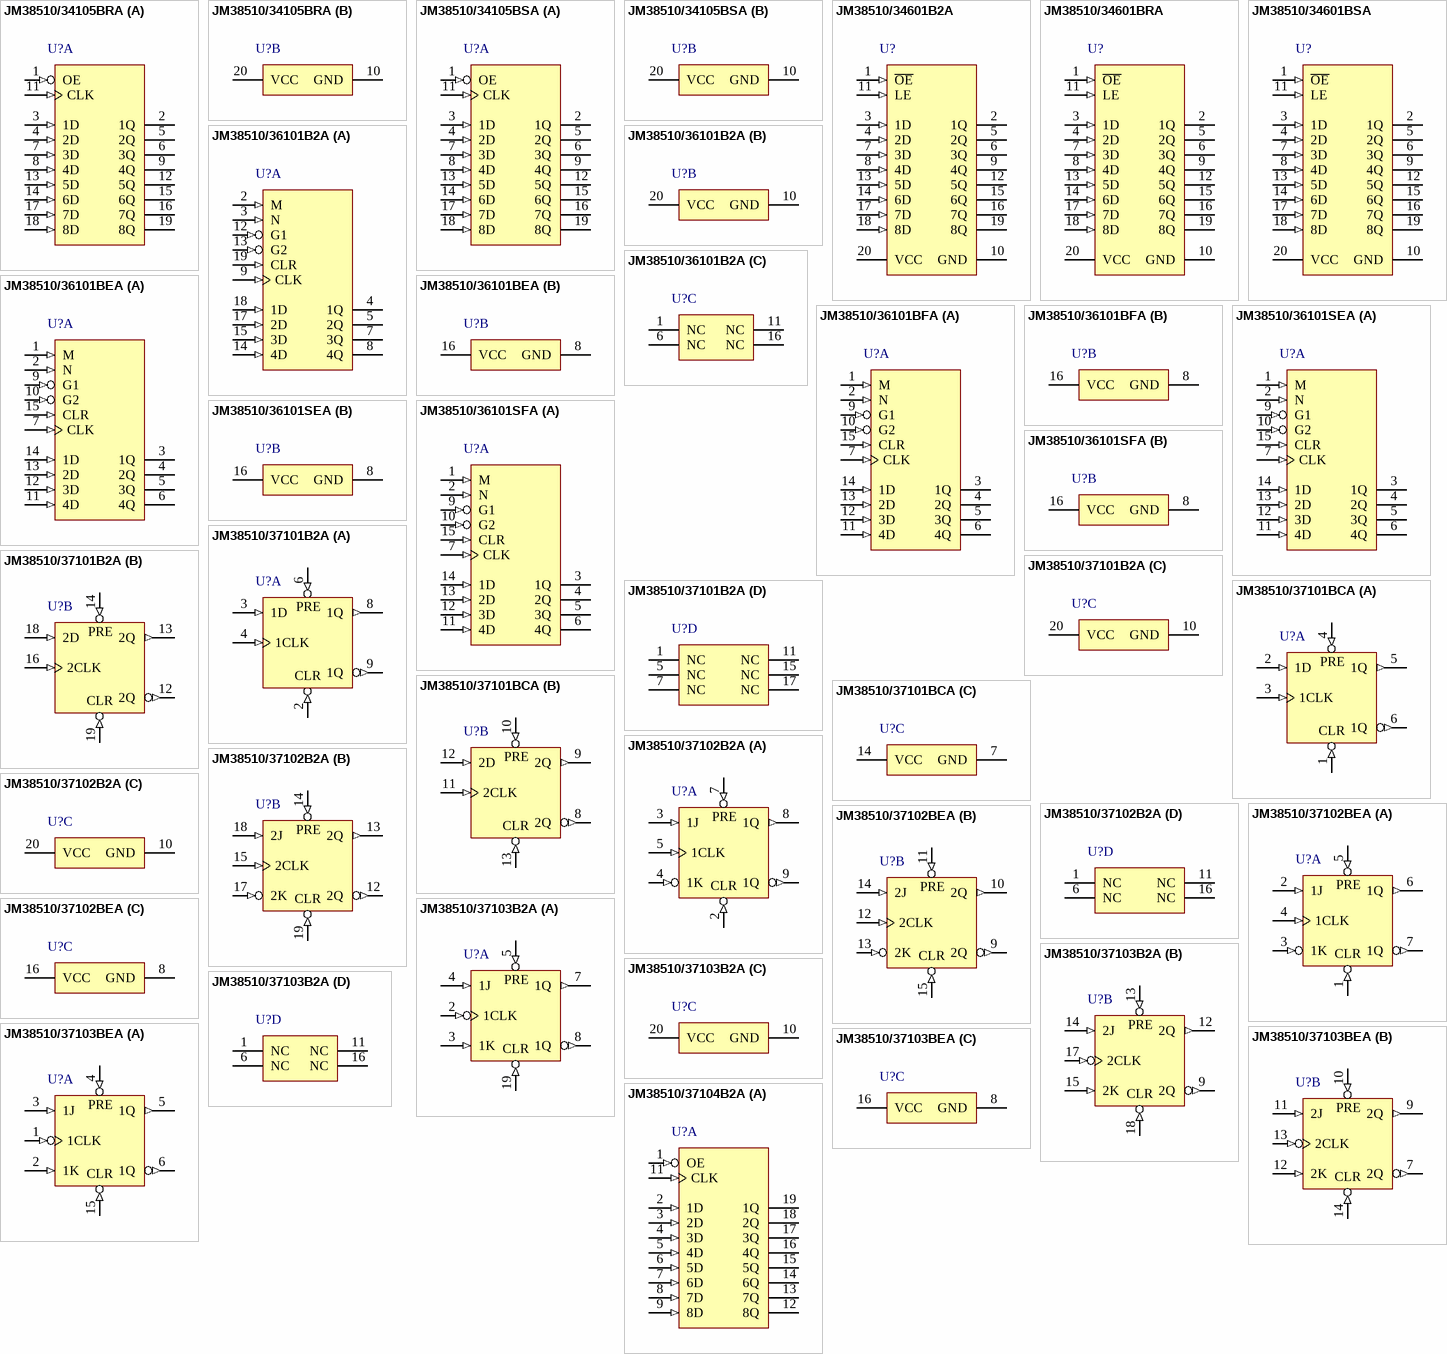
[diagram p33: symbols JM38510/34105BRA to JM38510/37104B2A]

## JM38510/34105BRA
designator U?
Octal Edge-Triggered D-type Flip-Flops With 3-State Outputs, J0020A, TUBE; Generic Part Number: SN54F374; Manufacturer: Texas Instruments; PartNumber: JM38510/34105BRA; VCC(Min)(V): 4.5; VCC(Max)(V): 5.5; Output Type: TTL; ICC @ Nom Voltage(Max)(mA): 86; Bits(#): 8; F @ Nom Voltage(Max)(Mhz): 70; Rating: Military; Technology Family: F; Schmitt Trigger: No; Output Drive (IOL/IOH)(Max)(mA): 24/-3; Output Logic: Non-inverted; 3-State Output: Yes; tpd @ Nom Voltage(Max)(ns): 10; DatasheetVersion: SDFS077A; PackageReference: J0020A; Input Type: TTL; Operating Temperature Range(C): -55 to 125; ComponentLink1Description: Manufacturer URL; ComponentLink1URL: http://www.ti.com/; ComponentLink2Description: Datasheet; ComponentLink2URL: http://www.ti.com/lit/ds/symlink/sn54f374.pdf; ComponentLink3Description: Package Specification; ComponentLink3URL: http://www.ti.com/lit/ml/mcer002d/mcer002d.pdf
footprint J0020A (DIP, 20-Leads, Body 26.9x7.2mm, Pitch 2.54mm)
part A pins: 1 OE (in), 2 1Q (hiz), 3 1D (in), 4 2D (in), 5 2Q (hiz), 6 3Q (hiz), 7 3D (in), 8 4D (in), 9 4Q (hiz), 11 CLK (in), 12 5Q (hiz), 13 5D (in), 14 6D (in), 15 6Q (hiz), 16 7Q (hiz), 17 7D (in), 18 8D (in), 19 8Q (hiz)
part B pins: 10 GND (power), 20 VCC (power)

## JM38510/34105BSA
designator U?
Octal Edge-Triggered D-type Flip-Flops With 3-State Outputs, W0020A, TUBE; Generic Part Number: SN54F374; Manufacturer: Texas Instruments; PartNumber: JM38510/34105BSA; VCC(Min)(V): 4.5; VCC(Max)(V): 5.5; Output Type: TTL; ICC @ Nom Voltage(Max)(mA): 86; Bits(#): 8; F @ Nom Voltage(Max)(Mhz): 70; Rating: Military; Technology Family: F; Schmitt Trigger: No; Output Drive (IOL/IOH)(Max)(mA): 24/-3; Output Logic: Non-inverted; 3-State Output: Yes; tpd @ Nom Voltage(Max)(ns): 10; DatasheetVersion: SDFS077A; PackageReference: W0020A; Input Type: TTL; Operating Temperature Range(C): -55 to 125; ComponentLink1Description: Manufacturer URL; ComponentLink1URL: http://www.ti.com/; ComponentLink2Description: Datasheet; ComponentLink2URL: http://www.ti.com/lit/ds/symlink/sn54f374.pdf; ComponentLink3Description: Package Specification; ComponentLink3URL: http://www.ti.com/lit/ml/mcfp006d/mcfp006d.pdf
footprint W0020A_N (CFP, 20-Leads, Body 13.72x7.62mm, Pitch 1.27mm, IPC Medium Density)
footprint W0020A_M (CFP, 20-Leads, Body 13.72x7.62mm, Pitch 1.27mm, IPC Low Density)
footprint W0020A_L (CFP, 20-Leads, Body 13.72x7.62mm, Pitch 1.27mm, IPC High Density)
part A pins: 1 OE (in), 2 1Q (hiz), 3 1D (in), 4 2D (in), 5 2Q (hiz), 6 3Q (hiz), 7 3D (in), 8 4D (in), 9 4Q (hiz), 11 CLK (in), 12 5Q (hiz), 13 5D (in), 14 6D (in), 15 6Q (hiz), 16 7Q (hiz), 17 7D (in), 18 8D (in), 19 8Q (hiz)
part B pins: 10 GND (power), 20 VCC (power)

## JM38510/34601B2A
designator U?
Octal Transparent D-type Latches With 3-State Outputs, FK0020A, TUBE; Generic Part Number: SN54F373; Manufacturer: Texas Instruments; PartNumber: JM38510/34601B2A; VCC(Min)(V): 4.5; VCC(Max)(V): 5.5; Output Type: TTL; Logic: True; ICC @ Nom Voltage(Max)(mA): 55; Bits(#): 8; F @ Nom Voltage(Max)(Mhz): 70; Rating: Military; Technology Family: F; Schmitt Trigger: No; Output Drive (IOL/IOH)(Max)(mA): 24/-3; Output Logic: Non-inverted; 3-State Output: Yes; DatasheetVersion: SDFS076A; PackageReference: FK0020A; Input Type: TTL; Operating Temperature Range(C): -55 to 125; tpd @ Nom Voltage(Max)(ns): 8; Code_JEDEC: MS-004; ComponentLink1Description: Manufacturer URL; ComponentLink1URL: http://www.ti.com/; ComponentLink2Description: Datasheet; ComponentLink2URL: http://www.ti.com/lit/ds/symlink/sn54f373.pdf; ComponentLink3Description: Package Specification; ComponentLink3URL: http://www.ti.com/lit/ml/mlcc006d/mlcc006d.pdf
footprint FK0020A_N (LCC, 20-Leads, Body 8.9x8.9mm, Pitch 1.27mm, IPC Medium Density)
footprint FK0020A_M (LCC, 20-Leads, Body 8.9x8.9mm, Pitch 1.27mm, IPC Low Density)
footprint FK0020A_L (LCC, 20-Leads, Body 8.9x8.9mm, Pitch 1.27mm, IPC High Density)
pins: 1 ~{OE} (in) "Output Enable", 2 1Q (hiz) "1Q Output", 3 1D (in) "1D Input", 4 2D (in) "2D Input", 5 2Q (hiz) "2Q Output", 6 3Q (hiz) "3Q Output", 7 3D (in) "3D Input", 8 4D (in) "4D Input", 9 4Q (hiz) "4Q Output", 10 GND (power) "Ground Pin", 11 LE (in) "Latch Enable", 12 5Q (hiz) "5Q Output", 13 5D (in) "5D Input", 14 6D (in) "6D Input", 15 6Q (hiz) "6Q Output", 16 7Q (hiz) "7Q Output", 17 7D (in) "7D Input", 18 8D (in) "8D Input", 19 8Q (hiz) "8Q Output", 20 VCC (power) "Power Pin"

## JM38510/34601BRA
designator U?
Octal Transparent D-type Latches With 3-State Outputs, J0020A, TUBE; Generic Part Number: SN54F373; Manufacturer: Texas Instruments; PartNumber: JM38510/34601BRA; VCC(Min)(V): 4.5; VCC(Max)(V): 5.5; Output Type: TTL; Logic: True; ICC @ Nom Voltage(Max)(mA): 55; Bits(#): 8; F @ Nom Voltage(Max)(Mhz): 70; Rating: Military; Technology Family: F; Schmitt Trigger: No; Output Drive (IOL/IOH)(Max)(mA): 24/-3; Output Logic: Non-inverted; 3-State Output: Yes; DatasheetVersion: SDFS076A; PackageReference: J0020A; Input Type: TTL; Operating Temperature Range(C): -55 to 125; tpd @ Nom Voltage(Max)(ns): 8; ComponentLink1Description: Manufacturer URL; ComponentLink1URL: http://www.ti.com/; ComponentLink2Description: Datasheet; ComponentLink2URL: http://www.ti.com/lit/ds/symlink/sn54f373.pdf; ComponentLink3Description: Package Specification; ComponentLink3URL: http://www.ti.com/lit/ml/mcer002d/mcer002d.pdf
footprint J0020A (DIP, 20-Leads, Body 26.9x7.2mm, Pitch 2.54mm)
pins: 1 ~{OE} (in) "Output Enable", 2 1Q (hiz) "1Q Output", 3 1D (in) "1D Input", 4 2D (in) "2D Input", 5 2Q (hiz) "2Q Output", 6 3Q (hiz) "3Q Output", 7 3D (in) "3D Input", 8 4D (in) "4D Input", 9 4Q (hiz) "4Q Output", 10 GND (power) "Ground Pin", 11 LE (in) "Latch Enable", 12 5Q (hiz) "5Q Output", 13 5D (in) "5D Input", 14 6D (in) "6D Input", 15 6Q (hiz) "6Q Output", 16 7Q (hiz) "7Q Output", 17 7D (in) "7D Input", 18 8D (in) "8D Input", 19 8Q (hiz) "8Q Output", 20 VCC (power) "Power Pin"

## JM38510/34601BSA
designator U?
Octal Transparent D-type Latches With 3-State Outputs, W0020A, TUBE; Generic Part Number: SN54F373; Manufacturer: Texas Instruments; PartNumber: JM38510/34601BSA; VCC(Min)(V): 4.5; VCC(Max)(V): 5.5; Output Type: TTL; Logic: True; ICC @ Nom Voltage(Max)(mA): 55; Bits(#): 8; F @ Nom Voltage(Max)(Mhz): 70; Rating: Military; Technology Family: F; Schmitt Trigger: No; Output Drive (IOL/IOH)(Max)(mA): 24/-3; Output Logic: Non-inverted; 3-State Output: Yes; DatasheetVersion: SDFS076A; PackageReference: W0020A; Input Type: TTL; Operating Temperature Range(C): -55 to 125; tpd @ Nom Voltage(Max)(ns): 8; ComponentLink1Description: Manufacturer URL; ComponentLink1URL: http://www.ti.com/; ComponentLink2Description: Datasheet; ComponentLink2URL: http://www.ti.com/lit/ds/symlink/sn54f373.pdf; ComponentLink3Description: Package Specification; ComponentLink3URL: http://www.ti.com/lit/ml/mcfp006d/mcfp006d.pdf
footprint W0020A_N (CFP, 20-Leads, Body 13.72x7.62mm, Pitch 1.27mm, IPC Medium Density)
footprint W0020A_M (CFP, 20-Leads, Body 13.72x7.62mm, Pitch 1.27mm, IPC Low Density)
footprint W0020A_L (CFP, 20-Leads, Body 13.72x7.62mm, Pitch 1.27mm, IPC High Density)
pins: 1 ~{OE} (in) "Output Enable", 2 1Q (hiz) "1Q Output", 3 1D (in) "1D Input", 4 2D (in) "2D Input", 5 2Q (hiz) "2Q Output", 6 3Q (hiz) "3Q Output", 7 3D (in) "3D Input", 8 4D (in) "4D Input", 9 4Q (hiz) "4Q Output", 10 GND (power) "Ground Pin", 11 LE (in) "Latch Enable", 12 5Q (hiz) "5Q Output", 13 5D (in) "5D Input", 14 6D (in) "6D Input", 15 6Q (hiz) "6Q Output", 16 7Q (hiz) "7Q Output", 17 7D (in) "7D Input", 18 8D (in) "8D Input", 19 8Q (hiz) "8Q Output", 20 VCC (power) "Power Pin"

## JM38510/36101B2A
designator U?
4-Bit D-type Registers with 3-State Outputs, FK0020A, TUBE; Generic Part Number: SN54LS173A; Manufacturer: Texas Instruments; PartNumber: JM38510/36101B2A; VCC(Min)(V): 4.75; VCC(Max)(V): 5.25; Output Type: TTL; Output: 3S; ICC @ Nom Voltage(Max)(mA): 24; Bits(#): 4; F @ Nom Voltage(Max)(Mhz): 35; Rating: Military; Technology Family: LS; Schmitt Trigger: No; Output Drive (IOL/IOH)(Max)(mA): 24/-2.6; Output Logic: Non-inverted; 3-State Output: Yes; tpd @ Nom Voltage(Max)(ns): 30; DatasheetVersion: SDLS067A; PackageReference: FK0020A; Input Type: TTL; Operating Temperature Range(C): -55 to 125; Code_JEDEC: MS-004; ComponentLink1Description: Manufacturer URL; ComponentLink1URL: http://www.ti.com/; ComponentLink2Description: Datasheet; ComponentLink2URL: http://www.ti.com/lit/ds/symlink/sn54ls173a.pdf; ComponentLink3Description: Package Specification; ComponentLink3URL: http://www.ti.com/lit/ml/mlcc006d/mlcc006d.pdf
footprint FK0020A_N (LCC, 20-Leads, Body 8.9x8.9mm, Pitch 1.27mm, IPC Medium Density)
footprint FK0020A_M (LCC, 20-Leads, Body 8.9x8.9mm, Pitch 1.27mm, IPC Low Density)
footprint FK0020A_L (LCC, 20-Leads, Body 8.9x8.9mm, Pitch 1.27mm, IPC High Density)
part A pins: 2 M (in), 3 N (in), 4 1Q (hiz), 5 2Q (hiz), 7 3Q (hiz), 8 4Q (hiz), 9 CLK (in), 12 G1 (in), 13 G2 (in), 14 4D (in), 15 3D (in), 17 2D (in), 18 1D (in), 19 CLR (in)
part B pins: 10 GND (power), 20 VCC (power)
part C pins: 1 NC, 6 NC, 11 NC, 16 NC

## JM38510/36101BEA
designator U?
4-Bit D-type Registers with 3-State Outputs, J0016A, TUBE; Generic Part Number: SN54LS173A; Manufacturer: Texas Instruments; PartNumber: JM38510/36101BEA; VCC(Min)(V): 4.75; VCC(Max)(V): 5.25; Output Type: TTL; Output: 3S; ICC @ Nom Voltage(Max)(mA): 24; Bits(#): 4; F @ Nom Voltage(Max)(Mhz): 35; Rating: Military; Technology Family: LS; Schmitt Trigger: No; Output Drive (IOL/IOH)(Max)(mA): 24/-2.6; Output Logic: Non-inverted; 3-State Output: Yes; tpd @ Nom Voltage(Max)(ns): 30; DatasheetVersion: SDLS067A; PackageReference: J0016A; Input Type: TTL; Operating Temperature Range(C): -55 to 125; ComponentLink1Description: Manufacturer URL; ComponentLink1URL: http://www.ti.com/; ComponentLink2Description: Datasheet; ComponentLink2URL: http://www.ti.com/lit/ds/symlink/sn54ls173a.pdf; ComponentLink3Description: Package Specification; ComponentLink3URL: http://www.ti.com/lit/ml/mcer002d/mcer002d.pdf
footprint J0016A (DIP, 16-Leads, Body 21.35x7.2mm, Pitch 2.54mm)
part A pins: 1 M (in), 2 N (in), 3 1Q (hiz), 4 2Q (hiz), 5 3Q (hiz), 6 4Q (hiz), 7 CLK (in), 9 G1 (in), 10 G2 (in), 11 4D (in), 12 3D (in), 13 2D (in), 14 1D (in), 15 CLR (in)
part B pins: 8 GND (power), 16 VCC (power)

## JM38510/36101BFA
designator U?
4-Bit D-type Registers with 3-State Outputs, W0016A, TUBE; Generic Part Number: SN54LS173A; Manufacturer: Texas Instruments; PartNumber: JM38510/36101BFA; VCC(Min)(V): 4.75; VCC(Max)(V): 5.25; Output Type: TTL; Output: 3S; ICC @ Nom Voltage(Max)(mA): 24; Bits(#): 4; F @ Nom Voltage(Max)(Mhz): 35; Rating: Military; Technology Family: LS; Schmitt Trigger: No; Output Drive (IOL/IOH)(Max)(mA): 24/-2.6; Output Logic: Non-inverted; 3-State Output: Yes; tpd @ Nom Voltage(Max)(ns): 30; DatasheetVersion: SDLS067A; PackageReference: W0016A; Input Type: TTL; Operating Temperature Range(C): -55 to 125; ComponentLink1Description: Manufacturer URL; ComponentLink1URL: http://www.ti.com/; ComponentLink2Description: Datasheet; ComponentLink2URL: http://www.ti.com/lit/ds/symlink/sn54ls173a.pdf; ComponentLink3Description: Package Specification; ComponentLink3URL: http://www.ti.com/lit/ml/mcfp004c/mcfp004c.pdf
footprint W0016A_N (CFP, 16-Leads, Body 10.92x7.24mm, Pitch 1.27mm, IPC Medium Density)
footprint W0016A_M (CFP, 16-Leads, Body 10.92x7.24mm, Pitch 1.27mm, IPC Low Density)
footprint W0016A_L (CFP, 16-Leads, Body 10.92x7.24mm, Pitch 1.27mm, IPC High Density)
part A pins: 1 M (in), 2 N (in), 3 1Q (hiz), 4 2Q (hiz), 5 3Q (hiz), 6 4Q (hiz), 7 CLK (in), 9 G1 (in), 10 G2 (in), 11 4D (in), 12 3D (in), 13 2D (in), 14 1D (in), 15 CLR (in)
part B pins: 8 GND (power), 16 VCC (power)

## JM38510/36101SEA
designator U?
4-Bit D-type Registers with 3-State Outputs, J0016A, TUBE; Generic Part Number: SN54LS173A-SP; Manufacturer: Texas Instruments; PartNumber: JM38510/36101SEA; VCC(Min)(V): 4.75; VCC(Max)(V): 5.25; Output Type: TTL; Output: 3S; ICC @ Nom Voltage(Max)(mA): 24; Bits(#): 4; F @ Nom Voltage(Max)(Mhz): 35; Rating: Space; Technology Family: LS; Schmitt Trigger: No; Output Drive (IOL/IOH)(Max)(mA): 24/-2.6; Output Logic: Non-inverted; 3-State Output: Yes; tpd @ Nom Voltage(Max)(ns): 30; DatasheetVersion: SDLS067A; PackageReference: J0016A; Input Type: TTL; Operating Temperature Range(C): -55 to 125; ComponentLink1Description: Manufacturer URL; ComponentLink1URL: http://www.ti.com/; ComponentLink2Description: Datasheet; ComponentLink2URL: http://www.ti.com/lit/ds/symlink/sn54ls173a-sp.pdf; ComponentLink3Description: Package Specification; ComponentLink3URL: http://www.ti.com/lit/ml/mcer002d/mcer002d.pdf
footprint J0016A (DIP, 16-Leads, Body 21.35x7.2mm, Pitch 2.54mm)
part A pins: 1 M (in), 2 N (in), 3 1Q (hiz), 4 2Q (hiz), 5 3Q (hiz), 6 4Q (hiz), 7 CLK (in), 9 G1 (in), 10 G2 (in), 11 4D (in), 12 3D (in), 13 2D (in), 14 1D (in), 15 CLR (in)
part B pins: 8 GND (power), 16 VCC (power)

## JM38510/36101SFA
designator U?
4-Bit D-type Registers with 3-State Outputs, W0016A, TUBE; Generic Part Number: SN54LS173A-SP; Manufacturer: Texas Instruments; PartNumber: JM38510/36101SFA; VCC(Min)(V): 4.75; VCC(Max)(V): 5.25; Output Type: TTL; Output: 3S; ICC @ Nom Voltage(Max)(mA): 24; Bits(#): 4; F @ Nom Voltage(Max)(Mhz): 35; Rating: Space; Technology Family: LS; Schmitt Trigger: No; Output Drive (IOL/IOH)(Max)(mA): 24/-2.6; Output Logic: Non-inverted; 3-State Output: Yes; tpd @ Nom Voltage(Max)(ns): 30; DatasheetVersion: SDLS067A; PackageReference: W0016A; Input Type: TTL; Operating Temperature Range(C): -55 to 125; ComponentLink1Description: Manufacturer URL; ComponentLink1URL: http://www.ti.com/; ComponentLink2Description: Datasheet; ComponentLink2URL: http://www.ti.com/lit/ds/symlink/sn54ls173a-sp.pdf; ComponentLink3Description: Package Specification; ComponentLink3URL: http://www.ti.com/lit/ml/mcfp004c/mcfp004c.pdf
footprint W0016A_N (CFP, 16-Leads, Body 10.92x7.24mm, Pitch 1.27mm, IPC Medium Density)
footprint W0016A_M (CFP, 16-Leads, Body 10.92x7.24mm, Pitch 1.27mm, IPC Low Density)
footprint W0016A_L (CFP, 16-Leads, Body 10.92x7.24mm, Pitch 1.27mm, IPC High Density)
part A pins: 1 M (in), 2 N (in), 3 1Q (hiz), 4 2Q (hiz), 5 3Q (hiz), 6 4Q (hiz), 7 CLK (in), 9 G1 (in), 10 G2 (in), 11 4D (in), 12 3D (in), 13 2D (in), 14 1D (in), 15 CLR (in)
part B pins: 8 GND (power), 16 VCC (power)

## JM38510/37101B2A
designator U?
Dual Positive-Edge-Triggered D-type Flip-Flops With Clear And Preset, FK0020A, TUBE; Generic Part Number: SN54ALS74A; Manufacturer: Texas Instruments; PartNumber: JM38510/37101B2A; VCC(Min)(V): 4.5; VCC(Max)(V): 5.5; Output Type: TTL; Output: 3S; ICC @ Nom Voltage(Max)(mA): 4; Bits(#): 2; F @ Nom Voltage(Max)(Mhz): 75; Rating: Military; Technology Family: ALS; Schmitt Trigger: No; Output Drive (IOL/IOH)(Max)(mA): 8/-0.4; Output Logic: Inverted,Non-inverted; tpd @ Nom Voltage(Max)(ns): 18; DatasheetVersion: SDAS143C; PackageReference: FK0020A; Input Type: TTL; Operating Temperature Range(C): -55 to 125; 3-State Output: No; Code_JEDEC: MS-004; ComponentLink1Description: Manufacturer URL; ComponentLink1URL: http://www.ti.com/; ComponentLink2Description: Datasheet; ComponentLink2URL: http://www.ti.com/lit/ds/symlink/sn54als74a.pdf; ComponentLink3Description: Package Specification; ComponentLink3URL: http://www.ti.com/lit/ml/mlcc006d/mlcc006d.pdf
footprint FK0020A_N (LCC, 20-Leads, Body 8.9x8.9mm, Pitch 1.27mm, IPC Medium Density)
footprint FK0020A_M (LCC, 20-Leads, Body 8.9x8.9mm, Pitch 1.27mm, IPC Low Density)
footprint FK0020A_L (LCC, 20-Leads, Body 8.9x8.9mm, Pitch 1.27mm, IPC High Density)
part A pins: 2 1~{CLR} (in), 3 1D (in), 4 1CLK (in), 6 1~{PRE} (in), 8 1Q (out), 9 1Q (out)
part B pins: 12 2Q (out), 13 2Q (out), 14 2~{PRE} (in), 16 2CLK (in), 18 2D (in), 19 2~{CLR} (in)
part C pins: 10 GND (power), 20 VCC (power)
part D pins: 1 NC, 5 NC, 7 NC, 11 NC, 15 NC, 17 NC
part A text: PRE; CLR
part B text: PRE; CLR

## JM38510/37101BCA
designator U?
Dual Positive-Edge-Triggered D-type Flip-Flops With Clear And Preset, J0014A, TUBE; Generic Part Number: SN54ALS74A; Manufacturer: Texas Instruments; PartNumber: JM38510/37101BCA; VCC(Min)(V): 4.5; VCC(Max)(V): 5.5; Output Type: TTL; Output: 3S; ICC @ Nom Voltage(Max)(mA): 4; Bits(#): 2; F @ Nom Voltage(Max)(Mhz): 75; Rating: Military; Technology Family: ALS; Schmitt Trigger: No; Output Drive (IOL/IOH)(Max)(mA): 8/-0.4; Output Logic: Inverted,Non-inverted; tpd @ Nom Voltage(Max)(ns): 18; DatasheetVersion: SDAS143C; PackageReference: J0014A; Input Type: TTL; Operating Temperature Range(C): -55 to 125; 3-State Output: No; ComponentLink1Description: Manufacturer URL; ComponentLink1URL: http://www.ti.com/; ComponentLink2Description: Datasheet; ComponentLink2URL: http://www.ti.com/lit/ds/symlink/sn54als74a.pdf; ComponentLink3Description: Package Specification; ComponentLink3URL: http://www.ti.com/lit/ml/mcer002d/mcer002d.pdf
footprint J0014A (DIP, 14-Leads, Body 19.95x7.2mm, Pitch 2.54mm)
part A pins: 1 1~{CLR} (in), 2 1D (in), 3 1CLK (in), 4 1~{PRE} (in), 5 1Q (out), 6 1Q (out)
part B pins: 8 2Q (out), 9 2Q (out), 10 2~{PRE} (in), 11 2CLK (in), 12 2D (in), 13 2~{CLR} (in)
part C pins: 7 GND (power), 14 VCC (power)
part A text: PRE; CLR
part B text: PRE; CLR

## JM38510/37102B2A
designator U?
Dual J-K Positive-Edge-Triggered Flip-Flops With Clear And Preset, FK0020A, TUBE; Generic Part Number: SN54ALS109A; Manufacturer: Texas Instruments; PartNumber: JM38510/37102B2A; VCC(Min)(V): 4.5; VCC(Max)(V): 5.5; Output Type: TTL; Output: 2S; Bits(#): 2; Rating: Military; Technology Family: ALS; Schmitt Trigger: No; DatasheetVersion: SDAS198B; PackageReference: FK0020A; Input Type: TTL; Operating Temperature Range(C): -55 to 125; Code_JEDEC: MS-004; ComponentLink1Description: Manufacturer URL; ComponentLink1URL: http://www.ti.com/; ComponentLink2Description: Datasheet; ComponentLink2URL: http://www.ti.com/lit/ds/symlink/sn54als109a.pdf; ComponentLink3Description: Package Specification; ComponentLink3URL: http://www.ti.com/lit/ml/mlcc006d/mlcc006d.pdf
footprint FK0020A_N (LCC, 20-Leads, Body 8.9x8.9mm, Pitch 1.27mm, IPC Medium Density)
footprint FK0020A_M (LCC, 20-Leads, Body 8.9x8.9mm, Pitch 1.27mm, IPC Low Density)
footprint FK0020A_L (LCC, 20-Leads, Body 8.9x8.9mm, Pitch 1.27mm, IPC High Density)
part A pins: 2 1~{CLR} (in), 3 1J (in), 4 1K (in), 5 1CLK (in), 7 1~{PRE} (in), 8 1Q (out), 9 1Q (out)
part B pins: 12 2Q (out), 13 2Q (out), 14 2~{PRE} (in), 15 2CLK (in), 17 2K (in), 18 2J (in), 19 2~{CLR} (in)
part C pins: 10 GND (power), 20 VCC (power)
part D pins: 1 NC, 6 NC, 11 NC, 16 NC
part A text: PRE; CLR
part B text: PRE; CLR

## JM38510/37102BEA
designator U?
Dual J-K Positive-Edge-Triggered Flip-Flops With Clear And Preset, J0016A, TUBE; Generic Part Number: SN54ALS109A; Manufacturer: Texas Instruments; PartNumber: JM38510/37102BEA; VCC(Min)(V): 4.5; VCC(Max)(V): 5.5; Output Type: TTL; Output: 2S; Bits(#): 2; Rating: Military; Technology Family: ALS; Schmitt Trigger: No; DatasheetVersion: SDAS198B; PackageReference: J0016A; Input Type: TTL; Operating Temperature Range(C): -55 to 125; ComponentLink1Description: Manufacturer URL; ComponentLink1URL: http://www.ti.com/; ComponentLink2Description: Datasheet; ComponentLink2URL: http://www.ti.com/lit/ds/symlink/sn54als109a.pdf; ComponentLink3Description: Package Specification; ComponentLink3URL: http://www.ti.com/lit/ml/mcer002d/mcer002d.pdf
footprint J0016A (DIP, 16-Leads, Body 21.35x7.2mm, Pitch 2.54mm)
part A pins: 1 1~{CLR} (in), 2 1J (in), 3 1K (in), 4 1CLK (in), 5 1~{PRE} (in), 6 1Q (out), 7 1Q (out)
part B pins: 9 2Q (out), 10 2Q (out), 11 2~{PRE} (in), 12 2CLK (in), 13 2K (in), 14 2J (in), 15 2~{CLR} (in)
part C pins: 8 GND (power), 16 VCC (power)
part A text: PRE; CLR
part B text: PRE; CLR